# Altium schematic symbol library TC65i.SchLib: 1 symbol
Pins are listed as number, name and electrical type; pins without a type are passive.

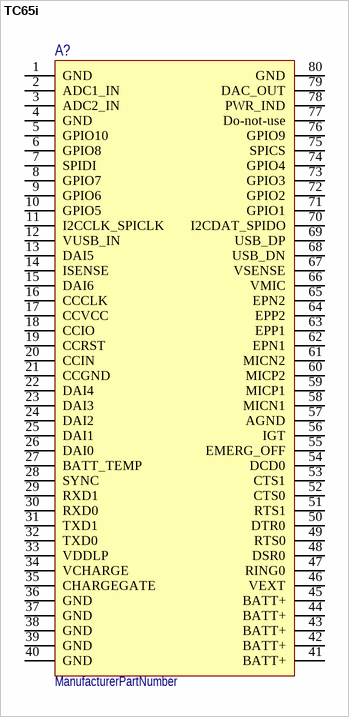
[diagram p0: symbol TC65i]

## TC65i
designator A?  (value not drawn)
ManufacturerPartNumber: ManufacturerPartNumber
pins: 1 GND, 2 ADC1_IN, 3 ADC2_IN, 4 GND, 5 GPIO10, 6 GPIO8, 7 SPIDI, 8 GPIO7, 9 GPIO6, 10 GPIO5, 11 I2CCLK_SPICLK, 12 VUSB_IN, 13 DAI5, 14 ISENSE, 15 DAI6, 16 CCCLK, 17 CCVCC, 18 CCIO, 19 CCRST, 20 CCIN, 21 CCGND, 22 DAI4, 23 DAI3, 24 DAI2, 25 DAI1, 26 DAI0, 27 BATT_TEMP, 28 SYNC, 29 RXD1, 30 RXD0, 31 TXD1, 32 TXD0, 33 VDDLP, 34 VCHARGE, 35 CHARGEGATE, 36 GND, 37 GND, 38 GND, 39 GND, 40 GND, 41 BATT+, 42 BATT+, 43 BATT+, 44 BATT+, 45 BATT+, 46 VEXT, 47 RING0, 48 DSR0, 49 RTS0, 50 DTR0, 51 RTS1, 52 CTS0, 53 CTS1, 54 DCD0, 55 EMERG_OFF, 56 IGT, 57 AGND, 58 MICN1, 59 MICP1, 60 MICP2, 61 MICN2, 62 EPN1, 63 EPP1, 64 EPP2, 65 EPN2, 66 VMIC, 67 VSENSE, 68 USB_DN, 69 USB_DP, 70 I2CDAT_SPIDO, 71 GPIO1, 72 GPIO2, 73 GPIO3, 74 GPIO4, 75 SPICS, 76 GPIO9, 77 Do-not-use, 78 PWR_IND, 79 DAC_OUT, 80 GND